# Altium footprint library PcbLib1.PcbLib: 17 footprints (part 2 of 2)
Each footprint in its own frame and in the unit in brackets; x right, y up, seen from the top. Pads: shape width x height; smd on the part's side, far side on the other; paste and mask are expansions set on the pad; w line width, h text height; cw(c..) or ccw(c..) is an arc to the next point about the centre after c.
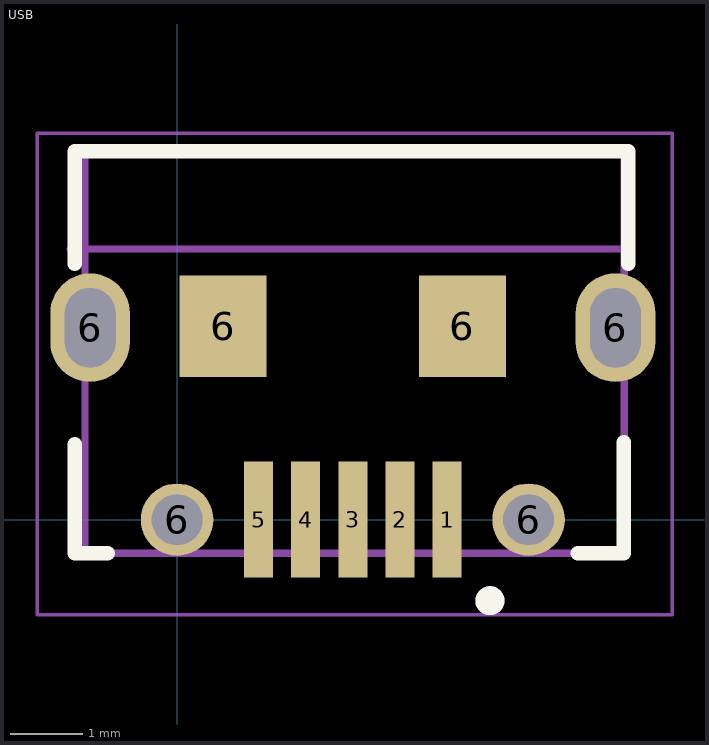
[diagram p1: the footprint, top view; thin cyan lines are the x and y axes]

## USB [mm]
pads (11):
  rect 0.4x1.6 smd: 1(3.725,0) 2(3.075,0) 3(2.425,0) 4(1.775,0) 5(1.125,0)
  oval 1.1x1.5 hole 0.7 slot 1.1 at 90 deg: 6(-1.2,2.65) 6(6.05,2.65)
  round 1 hole 0.7: 6(0,0) 6(4.85,0)
  rect 1.2x1.4 smd: 6(0.635,2.667) 6(3.937,2.667)
Top Overlay:
  circle w0.2: c4.318,-1.118 r0.1
  lines w0.2: -1.414,1.041 -1.414,-0.464 -0.959,-0.464 ; -1.414,3.531 -1.414,5.086 6.223,5.086 6.223,3.531 ; 5.531,-0.464 6.164,-0.464 6.164,1.066
Mechanical 13:
  circle w0.2: c4.318,-1.118 r0.1
  lines w0.1: -1.473,3.736 6.198,3.736 ; -1.27,-0.464 -1.27,5.086 6.172,5.086 6.172,-0.464 -1.27,-0.464
Mechanical 15 (Mech15):
  lines w0.05: -1.93,-1.314 -1.93,5.336 6.833,5.336 6.833,-1.314 -1.93,-1.314
3D body "step_temp.STEP": height 2.66, standoff -1, extent -1.27,-0.489 6.13,5.061